# Altium schematic symbol library 12V_Converter.SchLib: 1 symbol
Pins are listed as number, name and electrical type; pins without a type are passive.

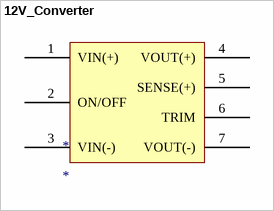
[diagram p0: symbol 12V_Converter]

## 12V_Converter
designator *
pins: 1 VIN(+), 2 ON/OFF, 3 VIN(-), 4 VOUT(+), 5 SENSE(+), 6 TRIM, 7 VOUT(-)